# Altium footprint library Switch_TE_Connectivity_1825057-1_eec_MFG.PcbLib: 1 footprints
Each footprint in its own frame and in the unit in brackets; x right, y up, seen from the top. Pads: shape width x height; smd on the part's side, far side on the other; paste and mask are expansions set on the pad; w line width, h text height; cw(c..) or ccw(c..) is an arc to the next point about the centre after c.
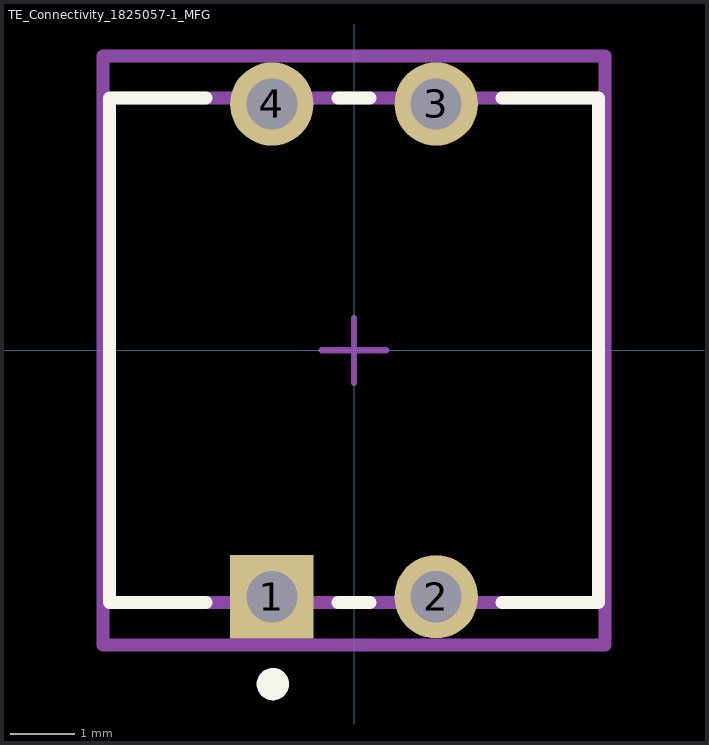
[diagram p0: the footprint, top view; thin cyan lines are the x and y axes]

## TE_Connectivity_1825057-1_MFG [mm]
pads (4):
  rect 1.29x1.29 hole 0.79 paste-1000 mask+0: 1(-1.27,-3.81)
  round 1.29 hole 0.79 paste-1000 mask+0: 2(1.27,-3.81) 3(1.27,3.81) 4(-1.27,3.81)
Top Overlay:
  circle w0.25: c-1.255,-5.16 r0.125
  lines w0.2: -2.29,-3.9 -3.78,-3.9 -3.78,3.9 -2.29,3.9 ; -0.25,-3.9 0.25,-3.9 ; -0.25,3.9 0.25,3.9 ; 2.29,-3.9 3.78,-3.9 3.78,3.9 2.29,3.9
Mechanical 10:
  lines w0.2: -3.88,-4.555 3.88,-4.555 3.88,4.555 -3.88,4.555 -3.88,-4.555
  text ".Designator" at 0,0 h1
Mechanical 12:
  lines w0.2: -3.78,-3.9 3.78,-3.9 3.78,3.9 -3.78,3.9 -3.78,-3.9
Mechanical 15:
  lines w0.1: -0.5,0 0.5,0 ; 0,-0.5 0,0.5
  lines w0.2: -3.88,-4.555 3.88,-4.555 3.88,4.555 -3.88,4.555 -3.88,-4.555
3D body "Switch_TE_Connectivity_1825057-1_eec.STEP": height 0.25, standoff 0, extent -3.88,-4.555 3.88,4.555